# Altium integrated library FPGA Configurable Generic.IntLib: 15 symbols
Pins are listed as number, name and electrical type; pins without a type are passive.

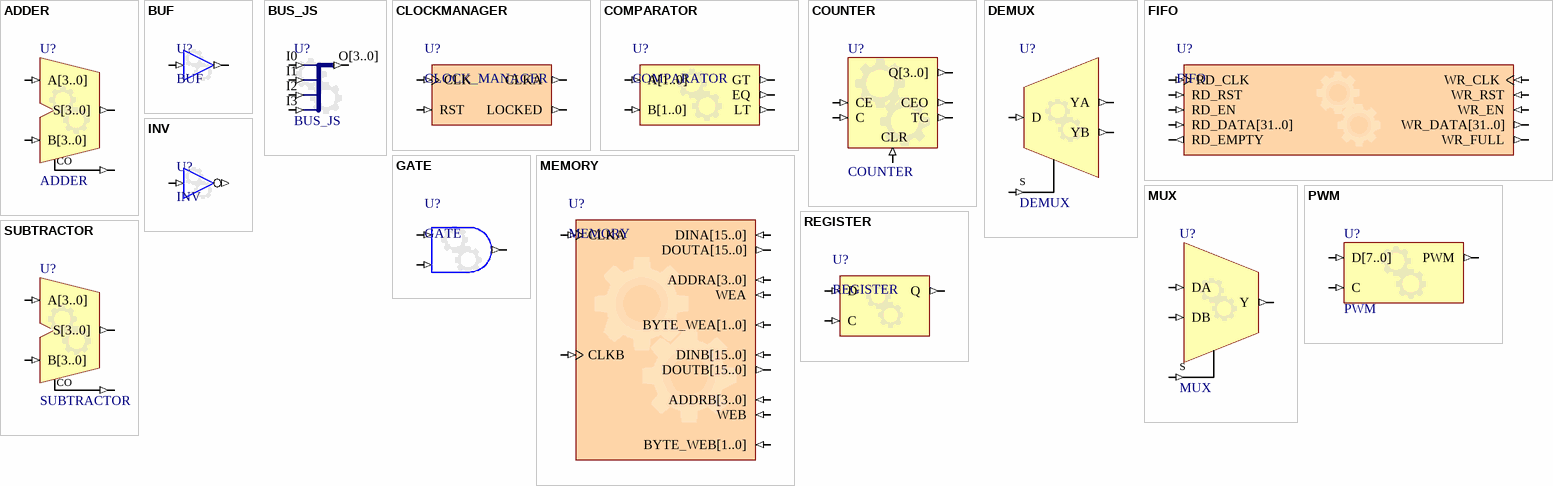
[diagram p0: symbols ADDER to SUBTRACTOR]

## ADDER
designator U?
Configurable Adder; ConfiguratorName: GENERIC_ADDER; ConfigurationParameters: {}Version[1.0]{}Type[Adder]{}SignedOverflow[False]{}UnsignedCarryOut[True]{}SignalWidth[4]{}BusInputs[True]{}BusOutput[True]{}RegisterOutputs[False]{}NegClockEdge[False]{}CarryIn[False]{}; LastRevisionNo: 1.00.00; Published: 23-Jan-2009; Publisher: Altium Limited
pins: A[3..0] (in), B[3..0] (in), CO (out), S[3..0] (out)

## BUF
designator U?
Configurable Buffer; ConfiguratorName: GENERIC_BUFFER; ConfigurationParameters: {}Version[1.1]{}SignalCount[1]{}SignalWidth0[1]{}OutputOption0[Normal]{}EnableMode[None]{}ShowPinNames[False]{}; LastRevisionNo: 1.00.00; Published: 19-Sep-2008; Publisher: Altium Limited; HelpURL: https://wiki.altium.com/display/ADOH/Configurable+Generic+Library
pins: I (in), O (out)

## BUS_JS
designator U?
Configurable Bus Joiner/Splitter; ConfiguratorName: GENERIC_BUS_JS; ConfigurationParameters: {}Version[1.1]{}SplitterJoinerType[Joiner]{}SignalCount[4]{}SignalWidth0[1]{}GapBelow0[1000000]{}ConnectionType0[Pin]{}SignalWidth1[1]{}GapBelow1[1000000]{}ConnectionType1[Pin]{}SignalWidth2[1]{}GapBelow2[1000000]{}ConnectionType2[Pin]{}SignalWidth3[1]{}GapBelow3[1000000]{}ConnectionType3[Pin]{}ShowPinNames[True]{}; LastRevisionNo: 1.00.00; Published: 17-Sep-2008; Publisher: Altium Limited; HelpURL: https://wiki.altium.com/display/ADOH/Configurable+Generic+Library
pins: I0 (in), I1 (in), I2 (in), I3 (in), O[3..0] (out)

## CLOCKMANAGER
designator U?, comment CLOCK_MANAGER
Configurable Clock Manager; ConfiguratorName: GENERIC_CLOCKMANAGER; LastRevisionNo: 1.00.00; Published: 18-Feb-2009; Publisher: Altium Limited; HelpURL: https://wiki.altium.com/display/ADOH/New+Configurable+Generic+FPGA+Logic+Components
pins: CLK (in), CLKA (out), LOCKED (out), RST (in)

## COMPARATOR
designator U?
Configurable Comparator; ConfiguratorName: GENERIC_COMPARATOR; ConfigurationParameters: {}Version[1.0]{}EQ[True]{}GT[True]{}LT[True]{}SignalWidth[2]{}BusInputs[True]{}RegisterOutputs[False]{}NegClockEdge[False]{}; LastRevisionNo: 1.00.00; Published: 21-Jan-2009; Publisher: Altium Limited
pins: A[1..0] (in), B[1..0] (in), EQ (out), GT (out), LT (out)

## COUNTER
designator U?
Configurable Counter; ConfiguratorName: GENERIC_COUNTER; ConfigurationParameters: {}Version[1.0]{}Type[Binary]{}SyncReset[False]{}NegativeClockEdge[False]{}FixedDirection[True]{}IsIncrement[True]{}SignalWidth[4]{}MaxValue[15]{}BusOutput[True]{}Loadable[False]{}BusInput[False]{}ShowPinNames[True]{}; LastRevisionNo: 1.00.00; Published: 14-Jan-2009; Publisher: Altium Limited
pins: C (in), CE (in), CEO (out), CLR (in), Q[3..0] (out), TC (out)

## DEMUX
designator U?
Configurable Demutliplexer; ConfigurationParameters: {}Version[1.0]{}ShowEnable[False]{}BusInputs[False]{}BusOutputs[False]{}SignalWidth[1]{}Type[Demultiplexer]{}RegisterOutputs[False]{}NegativeClockEdge[False]{}ShowPinNames[True]{}InvertSingleSignal[False]{}SignalCount[2]{}Invert0[False]{}Invert1[False]{}; ConfiguratorName: GENERIC_MULTIPLEXER; LastRevisionNo: 1.00.00; Published: 31-Dec-2008; Publisher: Altium Limited
pins: D (in), S (in), YA (out), YB (out)

## FIFO
designator U?
Configurable Generic FIFO; ConfiguratorName: GENERIC_FIFO; LastRevisionNo: 1.00.00; Published: 17-Sep-2008; Publisher: Altium Limited; HelpURL: https://wiki.altium.com/display/ADOH/Configurable+Generic+Library
pins: RD_CLK (in), RD_DATA[31..0] (in), RD_EMPTY (out), RD_EN (in), RD_RST (in), WR_CLK (in), WR_DATA[31..0] (out), WR_EN (in), WR_FULL (out), WR_RST (in)

## GATE
designator U?
Configurable Generic Gate; ConfiguratorName: GENERIC_GATE; ConfigurationParameters: {}Version[1.1]{}BusInput[False]{}GateKind[AND]{}GateInputType[Bit]{}GateOutputOption[Normal]{}BusWidth[8]{}InputCount[2]{}InputInvert0[False]{}InputInvert1[False]{}; LastRevisionNo: 1.00.00; Published: 3-Sep-2008; Publisher: Altium Limited; HelpURL: https://wiki.altium.com/display/ADOH/Configurable+Generic+Library
pins: I0 (in), I1 (in), O (out)

## INV
designator U?
Configurable Inverter; ConfigurationParameters: {}Version[1.1]{}SignalCount[1]{}SignalWidth0[1]{}OutputOption0[Inverted]{}EnableMode[None]{}ShowPinNames[False]{}; ConfiguratorName: GENERIC_BUFFER; LastRevisionNo: 1.00.00; Published: 10-Oct-2008; Publisher: Altium Limited; HelpURL: https://wiki.altium.com/display/ADOH/Configurable+Generic+Library
pins: I (in), O (out)

## MEMORY
designator U?
Configurable Memory; ConfiguratorName: GENERIC_MEMORY; LastRevisionNo: 1.00.00; Published: 28-Oct-2008; Publisher: Altium Limited; HelpURL: https://wiki.altium.com/display/ADOH/Configurable+Generic+Library
pins: ADDRA[3..0] (in), ADDRB[3..0] (in), BYTE_WEA[1..0] (in), BYTE_WEB[1..0] (in), CLKA (in), CLKB (in), DINA[15..0] (in), DINB[15..0] (in), DOUTA[15..0] (out), DOUTB[15..0] (out), WEA (in), WEB (in)

## MUX
designator U?
Configurable Mutliplexer; ConfigurationParameters: {}Version[1.0]{}ShowEnable[False]{}BusInputs[False]{}BusOutputs[False]{}SignalWidth[1]{}Type[Multiplexer]{}RegisterOutputs[False]{}NegativeClockEdge[False]{}ShowPinNames[True]{}InvertSingleSignal[False]{}SignalCount[2]{}Invert0[False]{}Invert1[False]{}; ConfiguratorName: GENERIC_MULTIPLEXER; LastRevisionNo: 1.00.00; Published: 31-Dec-2008; Publisher: Altium Limited
pins: DA (in), DB (in), S (in), Y (out)

## PWM
designator U?
Configurable PWM; ConfiguratorName: GENERIC_PWM; ConfigurationParameters: {}Version[1.0]{}Width[8]{}Prescaler[1]{}; LastRevisionNo: 1.00.00; Published: 8-Apr-2009; Publisher: Altium Limited; HelpURL: https://wiki.altium.com/display/ADOH/New+Configurable+Generic+FPGA+Logic+Components
pins: C (in), D[7..0] (in), PWM (out)

## REGISTER
designator U?
Configurable Register; ConfiguratorName: GENERIC_REGISTER; ConfigurationParameters: {}Version[1.1]{}SignalCount[1]{}SignalWidth0[1]{}OutputOption[Normal]{}NegativeTrigger[False]{}TriggerEnable[False]{}ResetMode[None]{}SetMode[None]{}RegisterType[DFlipFlop]{}; LastRevisionNo: 1.00.00; Published: 13-Oct-2008; Publisher: Altium Limited; HelpURL: https://wiki.altium.com/display/ADOH/Configurable+Generic+Library
pins: C (in), D (in), Q (out)

## SUBTRACTOR
designator U?
Configurable Subtractor; ConfiguratorName: GENERIC_ADDER; ConfigurationParameters: {}Version[1.0]{}Type[Subtractor]{}SignType[Unsigned]{}SignalWidth[4]{}BusInputs[True]{}BusOutput[True]{}RegisterOutputs[False]{}NegClockEdge[False]{}CarryIn[False]{}; LastRevisionNo: 1.00.00; Published: 28-Jan-2009; Publisher: Altium Limited
pins: A[3..0] (in), B[3..0] (in), CO (out), S[3..0] (out)